# Altium footprint library PAL.PcbLib: 271 footprints (part 17 of 17)
Each footprint in its own frame and in the unit in brackets; x right, y up, seen from the top. Pads: shape width x height; smd on the part's side, far side on the other; paste and mask are expansions set on the pad; w line width, h text height; cw(c..) or ccw(c..) is an arc to the next point about the centre after c.
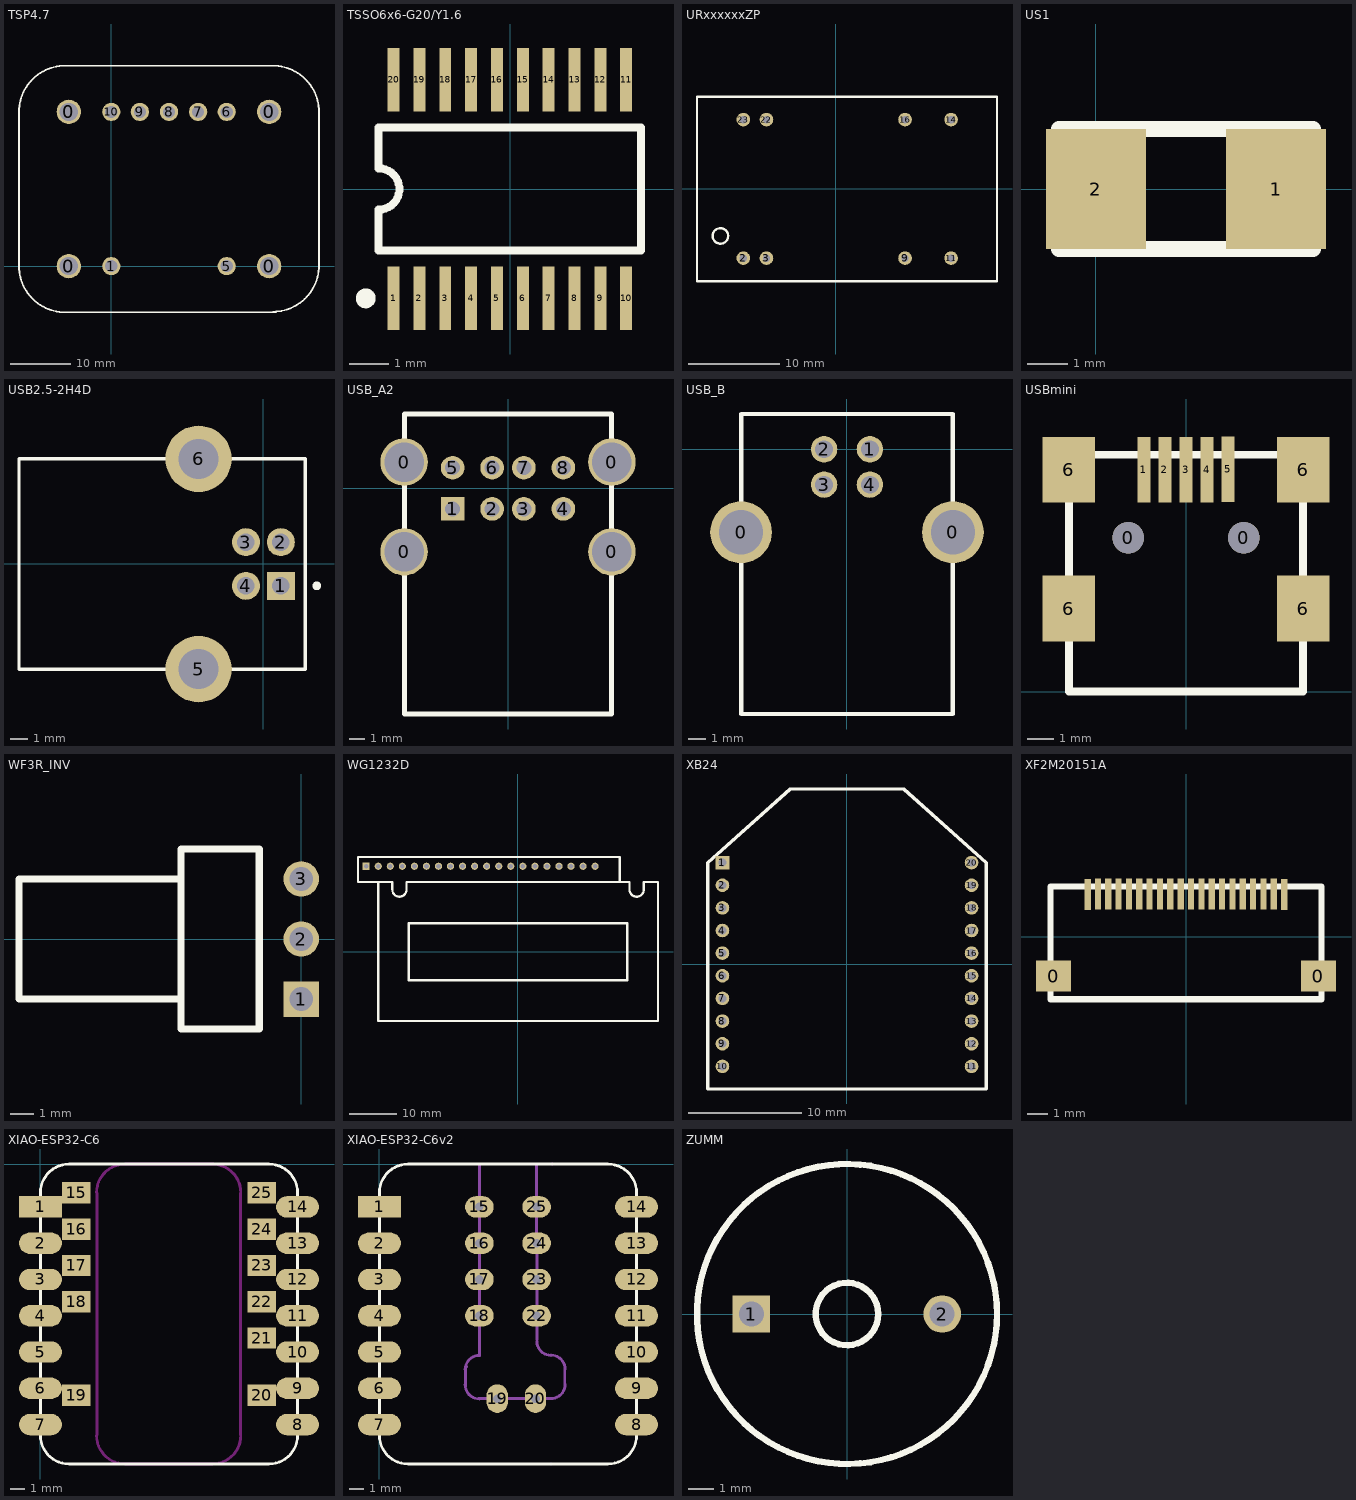
[diagram p16: the footprints below, top view; thin cyan lines are the x and y axes]

## TSP4.7 [mm]
pads (11):
  round 4 on Top hole 3: 0(-6.999,0.009) 0(-6.999,25.409) 0(26.001,0.009) 0(26.001,25.409)
  round 3 on Top hole 2: 1(0.001,0.009) 5(19.001,0.009) 6(19.001,25.409) 7(14.301,25.409) 8(9.501,25.409) 9(4.701,25.409) 10(0.001,25.409)
Top Overlay:
  lines w0.3: 26.601,-7.491 ccw(c26.601,0.109) 34.201,0.109 ; 27.101,-7.591 -7.599,-7.591 cw(c-7.599,0.009) -15.199,0.009 -15.199,25.409 cw(c-7.599,25.409) -7.599,33.009 26.601,33.009 cw(c26.601,25.409) 34.201,25.409 34.201,0.009

## TSSO6x6-G20/Y1.6 [mm]
pads (20):
  rect 0.3x1.6 smd: 1(-2.934,-2.743) 2(-2.284,-2.743) 3(-1.634,-2.743) 4(-0.984,-2.743) 5(-0.334,-2.743) 6(0.316,-2.743) 7(0.966,-2.743) 8(1.616,-2.743) 9(2.266,-2.743) 10(2.916,-2.743) 11(2.916,2.757) 12(2.266,2.757) 13(1.616,2.757) 14(0.966,2.757) 15(0.316,2.757) 16(-0.334,2.757) 17(-0.984,2.757) 18(-1.634,2.757) 19(-2.284,2.757) 20(-2.934,2.757)
Top Overlay:
  circle w0.25: c-3.634,-2.743 r0.125
  lines w0.2: -3.309,-1.543 3.291,-1.543 3.291,1.557 -3.309,1.557 -3.309,0.527 cw(c-3.309,0.007) -3.309,-0.513 -3.309,-1.543

## URxxxxxxZP [mm] "URxxxxxxZP"
pads (8):
  round 1.5 on Top hole 0.8: 2(-10.175,-7.625) 3(-7.625,-7.625) 9(7.625,-7.625) 11(12.7,-7.625) 14(12.7,7.625) 16(7.625,7.625) 22(-7.625,7.625) 23(-10.175,7.625)
Top Overlay:
  circle w0.254: c-12.7,-5.175 r0.855
  lines w0.254: -15.275,-10.175 17.75,-10.175 17.75,10.15 -15.275,10.15 -15.275,-10.1 -15.2,-10.175

## US1 [mm]
pads (2):
  rect 2.5x3 smd: 1(4.5,0) 2(0,0)
Top Overlay:
  lines w0.4: 0.345,-1.5 0.345,1.5 ; -0.925,-1.5 -0.925,1.5 5.425,1.5 5.425,-1.5 -0.925,-1.5

## USB2.5-2H4D [mm]
pads (6):
  rect 1.6x1.6 on Top hole 1: 1(0.993,-1.256)
  round 1.6 on Top hole 1: 2(0.993,1.244) 3(-1.007,1.244) 4(-1.007,-1.256)
  round 3.8 on Top hole 2.3: 5(-3.717,-6.026) 6(-3.717,6.014)
Top Overlay:
  circle w0.25: c3.053,-1.256 r0.125
  lines w0.2: -1.417,-6.026 2.403,-6.026 2.403,6.014 -1.417,6.014 ; 0,-6.026 -13.997,-6.026 -13.997,6.014 0,6.014

## USB_A2 [mm]
pads (12):
  round 3 on Top hole 2.5: 0(-6.57,-4.02) 0(-6.57,1.66) 0(6.57,-4.02) 0(6.57,1.66)
  rect 1.5x1.5 on Top hole 0.95: 1(-3.5,-1.3)
  round 1.5 on Top hole 0.95: 2(-1,-1.3) 3(1,-1.3) 4(3.5,-1.3) 5(-3.5,1.3) 6(-1,1.3) 7(1,1.3) 8(3.5,1.3)
Top Overlay:
  lines w0.3: -6.55,-14.28 -6.55,4.7 6.55,4.7 6.55,-14.28 -6.55,-14.28

## USB_B [mm]
pads (6):
  round 3.5 on Top hole 2.5: 0(-5.987,-4.689) 0(6.013,-4.689)
  round 1.5 on Top hole 1: 1(1.313,0.011) 2(-1.287,0.011) 3(-1.287,-1.989) 4(1.313,-1.989)
Top Overlay:
  lines w0.254: -5.987,-14.989 6.013,-14.989 6.013,2.011 -5.987,2.011 -5.987,0.011 -5.987,-14.989

## USBmini [mm]
pads (11):
  round 1.2 on Top hole 1.2: 0(-2.2,5.85) 0(2.2,5.85)
  rect 0.5x2.5 smd: 1(-1.6,8.43) 2(-0.8,8.43) 3(0,8.43) 4(0.8,8.43) 5(1.6,8.45)
  rect 2x2.5 smd: 6(-4.45,3.158) 6(-4.45,8.43) 6(4.45,3.158) 6(4.45,8.43)
Top Overlay:
  lines w0.3: -4.45,8.975 -4.45,0 4.45,0 ; -4.45,9 4.45,9 4.45,0.05 4.425,0.025

## WF3R_INV [mm]
pads (3):
  rect 1.5x1.5 on Top hole 1: 1(0,-2.54)
  round 1.5 on Top hole 1: 2(0,0) 3(0,2.54)
Top Overlay:
  lines w0.3: -5.08,-2.54 -11.938,-2.54 -11.938,2.54 -5.08,2.54 ; -5.08,-3.81 -1.778,-3.81 -1.778,3.81 -5.08,3.81 -5.08,-3.81

## WG1232D [mm]
pads (20):
  rect 1.5x1.5 on Top hole 1: 1(-32,18)
  round 1.5 on Top hole 1: 2(-29.46,18) 3(-26.92,18) 4(-24.38,18) 5(-21.84,18) 6(-19.3,18) 7(-16.76,18) 8(-14.22,18) 9(-11.68,18) 10(-9.14,18) 11(-6.6,18) 12(-4.06,18) 13(-1.52,18) 14(1.02,18) 15(3.56,18) 16(6.1,18) 17(8.64,18) 18(11.18,18) 19(13.72,18) 20(16.26,18)
Top Overlay:
  lines w0.48: -26.49,13.075 ccw(c-24.99,13.075) -23.49,13.075 ; 23.51,13.075 ccw(c25.01,13.075) 26.51,13.075
  lines w0.5: -29.475,14.65 -29.475,14.675 -33.725,14.675 -33.725,19.95 21.4,19.95 ; -26.515,13.1 -26.515,14.65 ; -26.515,14.675 -29.49,14.675 -29.49,-14.625 29.51,-14.625 29.51,14.675 26.535,14.675 ; -23.49,13.125 -23.49,14.675 23.51,14.675 23.51,13.125 ; 21.45,14.675 21.45,19.9 ; 26.535,13.1 26.535,14.65 ; -23,-6 23,-6 23,6 -23,6 -23,-6

## XB24 [mm]
pads (20):
  rect 1.2x1.2 on Top hole 0.7: 1(-11,9)
  round 1.2 on Top hole 0.7: 2(-11,7) 3(-11,5) 4(-11,3) 5(-11,1) 6(-11,-1) 7(-11,-3) 8(-11,-5) 9(-11,-7) 10(-11,-9) 11(11,-9) 12(11,-7) 13(11,-5) 14(11,-3) 15(11,-1) 16(11,1) 17(11,3) 18(11,5) 19(11,7) 20(11,9)
Top Overlay:
  lines w0.3: -12.3,-11 -12.3,9 -5,15.5 0,15.5 5,15.5 12.3,9 12.3,-11 0,-11 -12.3,-11

## XF2M20151A  [mm]
pads (22):
  rect 1.7x1.5 smd: 0(-6.4,-1.9) 0(6.4,-1.9)
  rect 0.3x1.5 smd: 1(-4.75,2.05) 2(-4.257,2.059) 3(-3.757,2.059) 4(-3.257,2.059) 5(-2.757,2.059) 6(-2.257,2.059) 7(-1.757,2.059) 8(-1.257,2.059) 9(-0.757,2.059) 10(-0.257,2.059) 11(0.243,2.059) 12(0.743,2.059) 13(1.243,2.059) 14(1.743,2.059) 15(2.243,2.059) 16(2.743,2.059) 17(3.243,2.059) 18(3.743,2.059) 19(4.243,2.059) 20(4.75,2.05)
Top Overlay:
  lines w0.3: -6.55,-3.025 -6.55,2.425 0,2.425 6.55,2.425 6.55,-3.025 0,-3.025 -6.55,-3.025

## XIAO-ESP32-C6 [mm]
pads (25):
  rect 3x1.5 smd: 1(0,-2.98)
  oval 3x1.5 smd: 2(0,-5.52) 3(0,-8.06) 4(0,-10.6) 5(0,-13.14) 6(0,-15.68) 7(0,-18.22) 8(18,-18.22) 9(18,-15.68) 10(18,-13.14) 11(18,-10.6) 12(18,-8.06) 13(18,-5.52) 14(18,-2.98)
  rect 2x1.5 smd: 15(2.5,-2) 16(2.5,-4.54) 17(2.5,-7.08) 18(2.5,-9.62) 19(2.5,-16.16) 20(15.5,-16.16) 21(15.5,-12.16) 22(15.5,-9.62) 23(15.5,-7.08) 24(15.5,-4.54) 25(15.5,-2)
Top Overlay:
  circle w0.2: c2,0.02 r0
  circle w0.2: c18,-1.98 r0
  circle w0.2: c15.975,-20.98 r0
  circle w0.2: c0,-18.955 r0
  lines w0.2: 0,-18.98 ccw(c2,-18.98) 2,-20.98 15.975,-20.98 ; 0,-18.955 0,-2.005 ; 0,-1.98 cw(c2,-1.98) 2,0.02 16,0.02 cw(c16,-1.98) 18,-1.98 18,-18.98 cw(c16,-18.98) 16,-20.98
Keep-Out Layer:
  circle w0.2: c12,-20.975 r0
  circle w0.2: c12.1,0.025 r0
  lines w0.2: 3.925,-18.98 ccw(c5.925,-18.98) 5.925,-20.98 ; 3.925,-1.98 cw(c5.925,-1.98) 5.925,0.02 ; 3.95,-18.95 3.95,-2 ; 5.925,-20.975 12,-20.975 ; 5.95,0.025 12.1,0.025 ; 12.025,-20.98 ccw(c12.025,-18.98) 14.025,-18.98 ; 12.025,0.02 cw(c12.025,-1.98) 14.025,-1.98 ; 14,-18.95 14,-2

## XIAO-ESP32-C6v2 [mm]
pads (24):
  rect 3x1.5 smd: 1(0,-2.98)
  oval 3x1.5 smd: 2(0,-5.52) 3(0,-8.06) 4(0,-10.6) 5(0,-13.14) 6(0,-15.68) 7(0,-18.22) 8(18,-18.22) 9(18,-15.68) 10(18,-13.14) 11(18,-10.6) 12(18,-8.06) 13(18,-5.52) 14(18,-2.98)
  oval 2x1.5 hole 0.6: 15(7,-2.98) 16(7,-5.52) 17(7,-8.06) 18(7,-10.6) 22(11,-10.6) 23(11,-8.06) 24(11,-5.52) 25(11,-2.98)
  oval 1.5x2 hole 0.6: 19(8.25,-16.4) 20(10.925,-16.4)
Top Overlay:
  circle w0.2: c2,0.02 r0
  circle w0.2: c18,-1.98 r0
  circle w0.2: c15.975,-20.98 r0
  circle w0.2: c0,-18.955 r0
  lines w0.2: 0,-18.98 ccw(c2,-18.98) 2,-20.98 15.975,-20.98 ; 0,-18.955 0,-2.005 ; 0,-1.98 cw(c2,-1.98) 2,0.02 16,0.02 cw(c16,-1.98) 18,-1.98 18,-18.98 cw(c16,-18.98) 16,-20.98
Keep-Out Layer:
  circle w0.2: c12,-20.975 r0
  circle w0.2: c12.1,0.025 r0
Mechanical 1:
  lines w0.2: 6,-15.425 ccw(c7,-15.425) 7,-16.425 ; 6,-14.375 cw(c7,-14.375) 7,-13.375 ; 6.025,-15.5 6.025,-14.25 6.1,-14.175 ; 6.95,-16.4 12,-16.4 ccw(c12,-15.4) 13,-15.4 ; 7,-13.4 7,0 ; 11,0 11.025,-12.3 ; 11.028,-12.4 ccw(c12,-12.4) 12,-13.372 ; 12,-13.35 cw(c12,-14.35) 13,-14.35 ; 12.975,-15.5 12.975,-14.25 13,-14.225 12.975,-14.225

## ZUMM [mm]
pads (2):
  rect 1.5x1.5 on Top hole 1: 1(-3.825,0)
  round 1.5 on Top hole 1: 2(3.81,0)
Top Overlay:
  circle w0.254: c0,0 r6
  circle w0.254: c0,0 r1.25